# Altium schematic symbol library LM2936.SchLib: 1 symbol
Pins are listed as number, name and electrical type; pins without a type are passive.

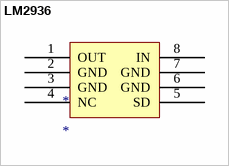
[diagram p0: symbol LM2936]

## LM2936
designator *
pins: 1 OUT, 2 GND, 3 GND, 4 NC, 5 SD, 6 GND, 7 GND, 8 IN